# Altium footprint library B105rlc.PcbLib: 36 footprints (part 2 of 3)
Each footprint in its own frame and in the unit in brackets; x right, y up, seen from the top. Pads: shape width x height; smd on the part's side, far side on the other; paste and mask are expansions set on the pad; w line width, h text height; cw(c..) or ccw(c..) is an arc to the next point about the centre after c.
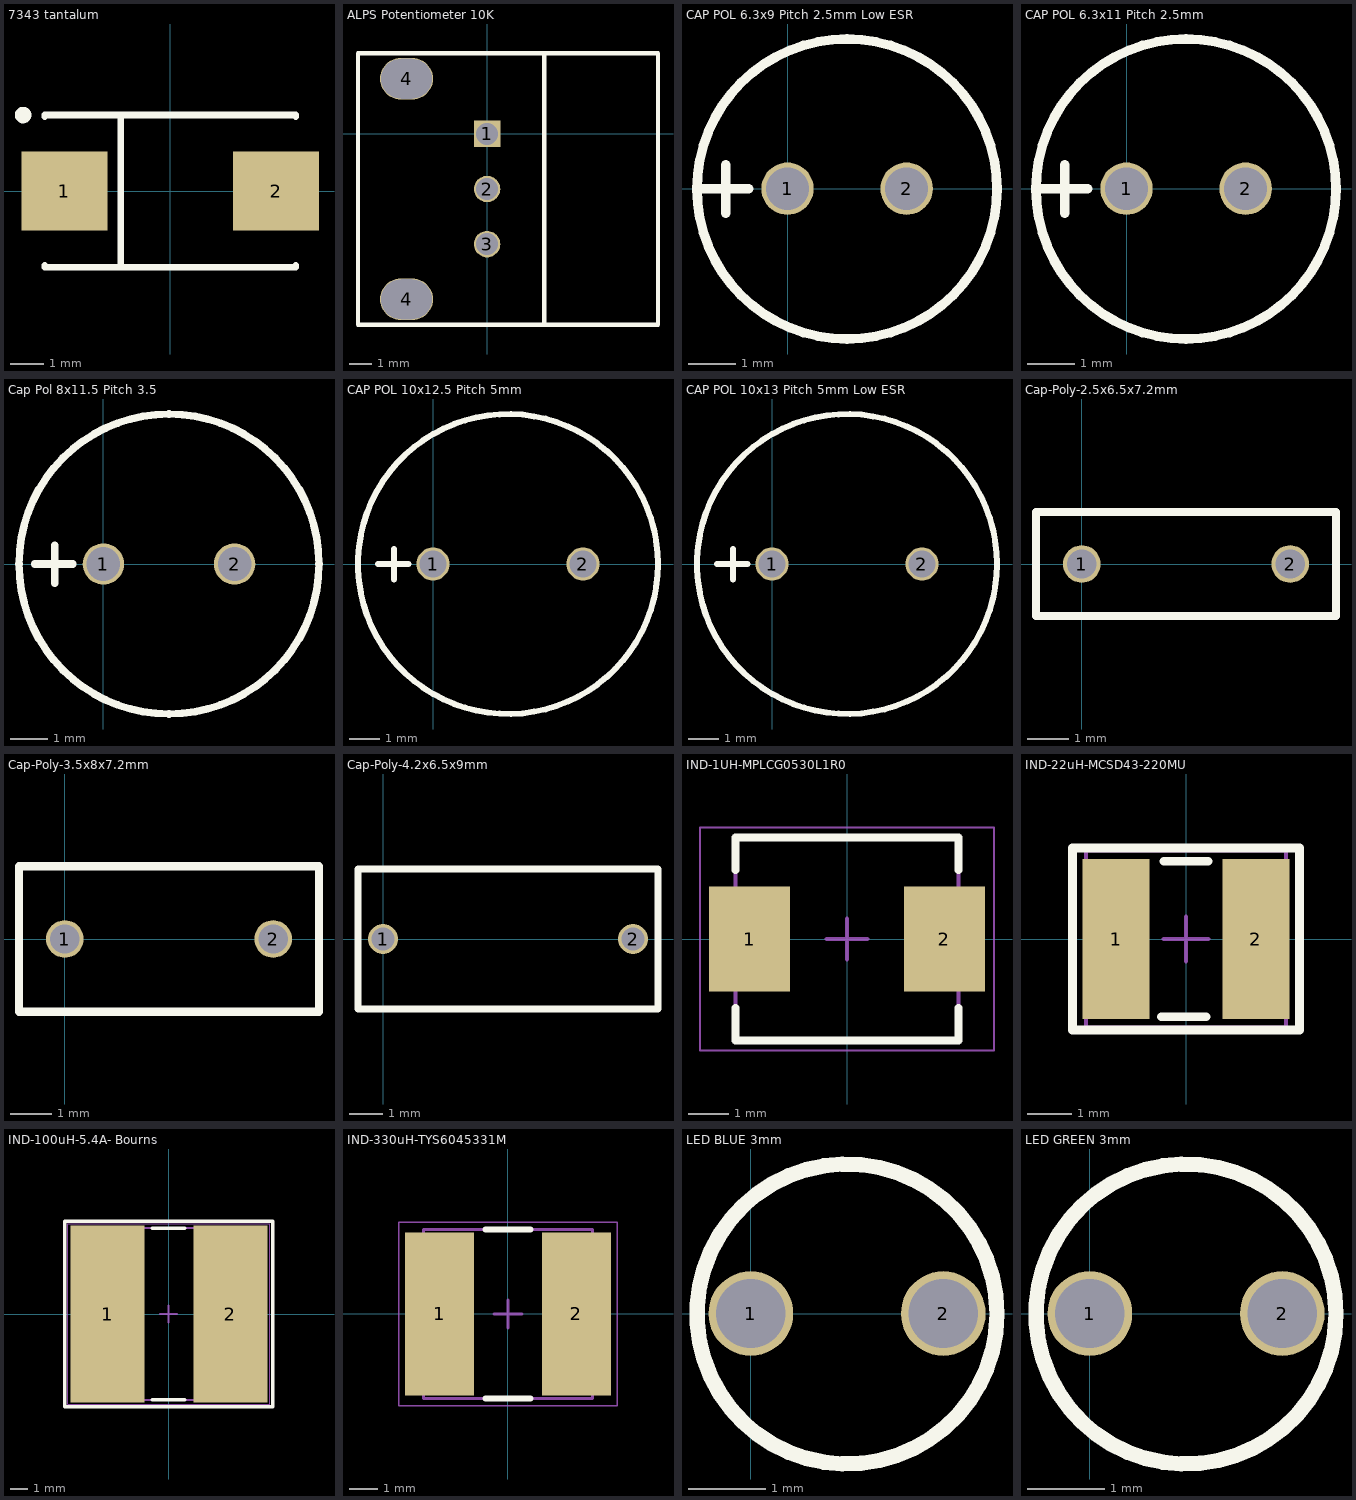
[diagram p1: the footprints below, top view; thin cyan lines are the x and y axes]

## 7343 tantalum [mm] "Capacitor, SM Tantalum; Body 7.3 x 4.3 mm (LxW typ)"
height 4.3
pads (2):
  rect 2.6x2.4 smd: 1(-3.2,0) 2(3.2,0)
Top Overlay:
  circle w0.25: c-4.45,2.3 r0.125
  lines w0.2: -3.8,-2.25 -3.8,-2.3 3.8,-2.3 3.8,-2.25 ; -3.8,2.25 -3.8,2.3 3.8,2.3 3.8,2.25 ; -1.5,-2.3 -1.5,2.3
3D body: height 1, standoff 0, extent 3.429,-1.27 3.81,1.27
3D body: height 1, standoff 0, extent -3.81,-1.27 -3.429,1.27
3D body: height 4, standoff 0, extent -3.556,-2.159 3.556,2.159
3D body: height 4.05, standoff 0, extent -3.302,-2.032 -2.286,2.032

## ALPS Potentiometer 10K [mm]
pads (5):
  rect 1.2x1.2 hole 1: 1(0,0)
  round 1.2 hole 1: 2(0,-2.5) 3(0,-5)
  oval 2.4x1.9 hole 1.8 slot 2.3 at 0 deg: 4(-3.65,-7.5) 4(-3.65,2.5)
Top Overlay:
  lines w0.2: 2.6,-8.65 7.75,-8.65 7.75,3.65 2.6,3.65 ; 2.6,-8.65 -5.85,-8.65 -5.85,3.65 2.6,3.65 ; 2.6,-8.65 2.6,3.65
3D body: height 11.85, standoff -3, extent -5.75,-8.55 19.95,3.55

## CAP POL 6.3x9 Pitch 2.5mm Low ESR [mm]
pads (2):
  round 1.1 hole 0.9: 1(0,0) 2(2.5,0)
Top Overlay:
  circle w0.2: c1.249,-0.006 r3.15
  lines w0.2: -1.833,0 -0.817,0 ; -1.3,-0.516 -1.3,0.5
3D body: height 11, standoff -3.2, extent -1.901,-3.15 4.401,3.136

## CAP POL 6.3x11 Pitch 2.5mm [mm]
pads (2):
  round 1.1 hole 0.9: 1(0,0) 2(2.5,0)
Top Overlay:
  circle w0.2: c1.249,-0.006 r3.15
  lines w0.2: -1.833,0 -0.817,0 ; -1.3,-0.516 -1.3,0.5
3D body: height 11, standoff -3.2, extent -1.901,-3.15 4.401,3.136

## Cap Pol 8x11.5 Pitch 3.5 [mm]
pads (2):
  round 1.1 hole 0.9: 1(0,0) 2(3.5,0)
Top Overlay:
  circle w0.2: c1.75,0 r3.999
  lines w0.2: -1.833,0 -0.817,0 ; -1.3,-0.516 -1.3,0.5
3D body: height 11.5, standoff -3.3, extent -2.249,-3.982 5.753,4

## CAP POL 10x12.5 Pitch 5mm [mm]
pads (2):
  round 1.1 hole 0.9: 1(0,0) 2(5,0)
Top Overlay:
  circle w0.2: c2.5,0 r5
  lines w0.2: -1.833,0 -0.817,0 ; -1.3,-0.516 -1.3,0.5
3D body: height 14.1, standoff -4.72, extent -2.5,-4.994 7.5,4.994

## CAP POL 10x13 Pitch 5mm Low ESR [mm]
pads (2):
  round 1.1 hole 0.9: 1(0,0) 2(5,0)
Top Overlay:
  circle w0.2: c2.5,0 r5
  lines w0.2: -1.833,0 -0.817,0 ; -1.3,-0.516 -1.3,0.5
3D body: height 14.1, standoff -4.72, extent -2.5,-4.994 7.5,4.994

## Cap-Poly-2.5x6.5x7.2mm [mm]
pads (2):
  round 0.9 hole 0.7: 1(0,0) 2(5,0)
Top Overlay:
  lines w0.2: -1.1,-1.25 -1.1,1.25 6.1,1.25 6.1,-1.25 -1.1,-1.25
3D body: height 8.53, standoff -3, extent -1.1,-1.1 6.1,1.1

## Cap-Poly-3.5x8x7.2mm [mm]
pads (2):
  round 0.9 hole 0.7: 1(0,0) 2(5,0)
Top Overlay:
  lines w0.2: -1.1,-1.75 6.1,-1.75 6.1,1.75 -1.1,1.75 -1.1,-1.75
3D body: height 8, standoff 0, extent -1.1,-1.75 6.1,1.75

## Cap-Poly-4.2x6.5x9mm [mm]
pads (2):
  round 0.9 hole 0.7: 1(0,0) 2(7.5,0)
Top Overlay:
  lines w0.2: -0.75,-2.1 -0.75,2.1 8.25,2.1 8.25,-2.1 -0.75,-2.1
3D body: height 6.5, standoff 0, extent -0.75,-2.1 8.25,2.1

## IND-1UH-MPLCG0530L1R0 [mm]
height 3
pads (2):
  rect 2x2.6 smd: 1(-2.4,0) 2(2.4,0)
Top Overlay:
  lines w0.2: -2.75,-1.7 -2.75,-2.5 2.75,-2.5 2.75,-1.7 ; -2.75,1.7 -2.75,2.5 2.75,2.5 2.75,1.7
Mechanical 13:
  lines w0.1: -2.75,-2.5 -2.75,2.5 2.75,2.5 2.75,-2.5 -2.75,-2.5
Mechanical 15:
  lines w0.05: -3.625,-2.75 -3.625,2.75 3.625,2.75 3.625,-2.75 -3.625,-2.75
  lines w0.1: -0.5,0 0.5,0 ; 0,-0.5 0,0.5
3D body: height 3, standoff 0, extent -2.505,-2.505 2.505,2.505

## IND-22uH-MCSD43-220MU [mm]
height 3.2
pads (2):
  rect 1.5x3.6 smd: 1(-1.575,0) 2(1.575,0)
Top Overlay:
  lines w0.2: -0.55,-1.75 0.45,-1.75 ; -0.5,1.75 0.5,1.75 ; -2.55,-2.05 -2.55,2.05 2.55,2.05 2.55,-2.05 -2.55,-2.05
Mechanical 13:
  lines w0.1: -2.25,-2 -2.25,2 2.25,2 2.25,-2 -2.25,-2
Mechanical 15:
  lines w0.05: -2.55,-2.05 -2.55,2.05 2.55,2.05 2.55,-2.05 -2.55,-2.05
  lines w0.1: -0.5,0 0.5,0 ; 0,-0.5 0,0.5
3D body: height 2, standoff -0.1, extent -2.15,-2.15 2.15,2.15

## IND-100uH-5.4A- Bourns [mm] "Precision Wire Wound Inductor, 2-Leads, Body 10,00x10,00mm, IPC Medium Density"
height 6
pads (2):
  rect 4.3x10.3 smd: 1(-3.55,0) 2(3.6,0)
Top Overlay:
  lines w0.2: -0.95,-5 0.95,-5 ; -0.95,5 0.95,5 ; -6.05,-5.4 -6.05,5.4 6.05,5.4 6.05,-5.4 -6.05,-5.4
Mechanical 13:
  lines w0.1: -5,-5 5,-5 5,5 -5,5 -5,-5
Mechanical 15:
  lines w0.05: -5.875,-5.25 5.875,-5.25 5.875,5.25 -5.875,5.25 -5.875,-5.25
  lines w0.1: -0.5,0 0.5,0 ; 0,-0.5 0,0.5
3D body: height 6.1, standoff 0, extent -4.95,-5 4.85,5

## IND-330uH-TYS6045331M [mm]
height 4.5
pads (2):
  rect 2.45x5.8 smd: 1(-2.425,0) 2(2.425,0)
Top Overlay:
  lines w0.2: -0.8,-3 0.8,-3 ; -0.8,3 0.8,3
Mechanical 13:
  lines w0.1: -3,-3 -3,3 3,3 3,-3 -3,-3
Mechanical 15:
  lines w0.05: -3.875,-3.25 -3.875,3.25 3.875,3.25 3.875,-3.25 -3.875,-3.25
  lines w0.1: -0.5,0 0.5,0 ; 0,-0.5 0,0.5
3D body: height 2.5, standoff 0, extent -3.153,-3.106 3.053,3.1

## LED BLUE 3mm [mm]
pads (2):
  round 1.1 hole 0.9: 1(0,0) 2(2.5,0)
Top Overlay:
  circle w0.2: c1.249,-0.006 r1.949
3D body: height 4.98, standoff -2.5, extent -0.363,-1.648 2.85,1.648

## LED GREEN 3mm [mm]
pads (2):
  round 1.1 hole 0.9: 1(0,0) 2(2.5,0)
Top Overlay:
  circle w0.2: c1.249,-0.006 r1.949
3D body: height 5.51, standoff -2.49, extent -0.394,-1.649 2.906,1.64